# EAGLE library part MAX6956AAI (library futz)
MAX6956AAI 2-Wire-Interfaced, 2.5V to 5.5V, 20-Port or 28-Port LED Display Driver and I/O Expander
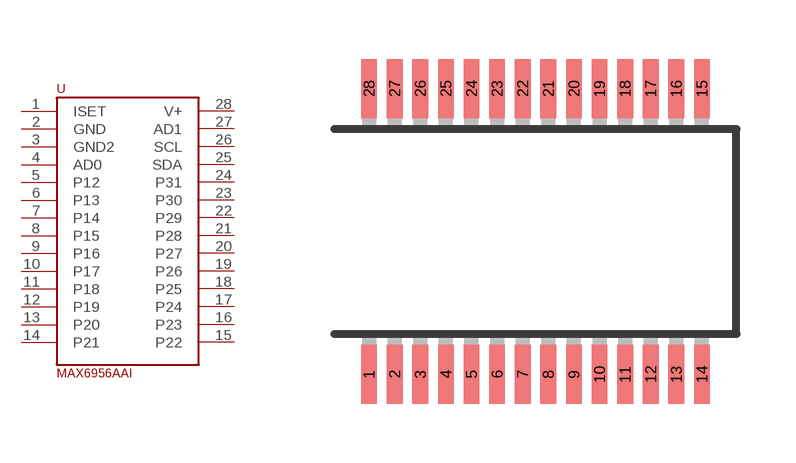
[diagram p2: symbol with the pads of SSOP28; footprint SSOP28]

Designator prefix -

## MAX6956AAI  [SSOP28]
1  ISET  pas
2  GND  pwr
3  GND2  pwr
4  AD0  in
5  P12
6  P13
7  P14
8  P15
9  P16
10  P17
11  P18
12  P19
13  P20
14  P21
15  P22
16  P23
17  P24
18  P25
19  P26
20  P27
21  P28
22  P29
23  P30
24  P31
25  SDA
26  SCL  in
27  AD1  in
28  V+  pwr

## Footprint SSOP28 (pad centres in mm)
smd 0.4 x 1.5: 1 -4.225,-3.625; 2 -3.575,-3.625; 3 -2.925,-3.625; 4 -2.275,-3.625; 5 -1.625,-3.625; 6 -0.975,-3.625; 7 -0.325,-3.625; 8 0.325,-3.625; 9 0.975,-3.625; 10 1.625,-3.625; 11 2.275,-3.625; 12 2.925,-3.625; 13 3.575,-3.625; 14 4.225,-3.625; 15 4.225,3.625; 16 3.575,3.625; 17 2.925,3.625; 18 2.275,3.625; 19 1.625,3.625; 20 0.975,3.625; 21 0.325,3.625; 22 -0.325,3.625; 23 -0.975,3.625; 24 -1.625,3.625; 25 -2.275,3.625; 26 -2.925,3.625; 27 -3.575,3.625; 28 -4.225,3.625